# Altium schematic symbol library 集成库0514.SCHLIB: 137 symbols
Pins are listed as number, name and electrical type; pins without a type are passive.

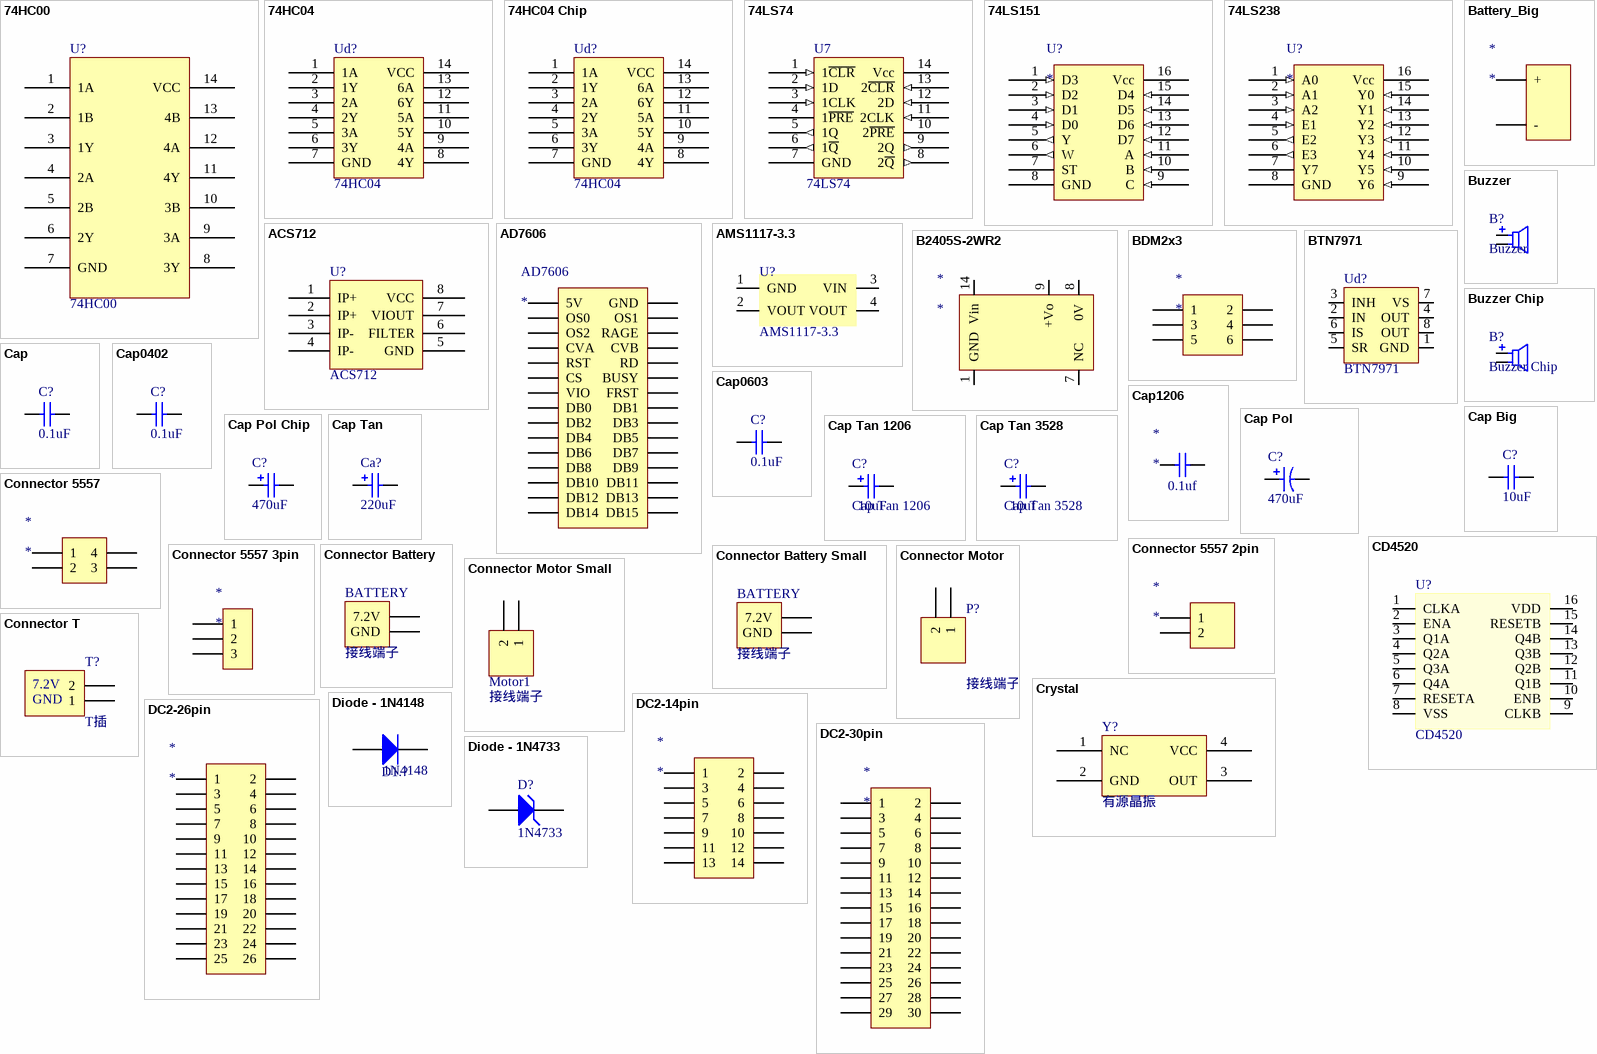
[diagram p0: symbols 74HC00 to Diode - 1N4733]

## 74HC00
designator U?
四路与非门
footprint 74HC00
pins: 1 1A, 2 1B, 3 1Y, 4 2A, 5 2B, 6 2Y, 7 GND, 8 3Y, 9 3A, 10 3B, 11 4Y, 12 4A, 13 4B, 14 VCC

## 74HC04
designator Ud?
反相器，直插封装
footprint 74HC04 (直插反相器)
footprint 74LS04 (贴片反相器)
pins: 1 1A, 2 1Y, 3 2A, 4 2Y, 5 3A, 6 3Y, 7 GND, 8 4Y, 9 4A, 10 5Y, 11 5A, 12 6Y, 13 6A, 14 VCC

## 74HC04 Chip
designator Ud?, comment 74HC04
反相器，贴片封装
footprint 74LS04 (贴片反相器)
pins: 1 1A, 2 1Y, 3 2A, 4 2Y, 5 3A, 6 3Y, 7 GND, 8 4Y, 9 4A, 10 5Y, 11 5A, 12 6Y, 13 6A, 14 VCC

## 74LS74
designator U7
D触发器
footprint 74LS74 (D触发器)
pins: 1 1~{CLR} (in), 2 1D (in), 3 1CLK (in), 4 1~{PRE}, 5 1Q (out), 6 1~{Q} (out), 7 GND, 8 2~{Q} (out), 9 2Q (out), 10 2~{PRE}, 11 2CLK (in), 12 2D (in), 13 2~{CLR} (in), 14 Vcc (power)

## 74LS151
designator U?
8选1多路选通
footprint 74LS151
pins: 1 D3 (in), 2 D2 (in), 3 D1 (in), 4 D0 (in), 5 Y (out), 6 W (out), 7 ST, 8 GND, 9 C (in), 10 B (in), 11 A (in), 12 D7 (in), 13 D6 (in), 14 D5 (in), 15 D4 (in), 16 Vcc (power)

## 74LS238
designator U?
3-8译码器
footprint 74LS238
pins: 1 A0 (in), 2 A1 (in), 3 A2 (in), 4 E1 (in), 5 E2 (out), 6 E3 (out), 7 Y7, 8 GND, 9 Y6 (in), 10 Y5 (in), 11 Y4 (in), 12 Y3 (in), 13 Y2 (in), 14 Y1 (in), 15 Y0 (in), 16 Vcc (power)

## ACS712
designator U?
电流霍尔传感器
footprint ACS712
pins: 1 IP+, 2 IP+, 3 IP-, 4 IP-, 5 GND, 6 FILTER, 7 VIOUT, 8 VCC

## AD7606
designator AD7606
AD7606, Header, 15-Pin, Dual row
footprint HDR15X2
pins: 1 5V, 2 GND, 3 OS0, 4 OS1, 5 OS2, 6 RAGE, 7 CVA, 8 CVB, 9 RST, 10 RD, 11 CS, 12 BUSY, 13 VIO, 14 FRST, 15 DB0, 16 DB1, 17 DB2, 18 DB3, 19 DB4, 20 DB5, 21 DB6, 22 DB7, 23 DB8, 24 DB9, 25 DB10, 26 DB11, 27 DB12, 28 DB13, 29 DB14, 30 DB15

## AMS1117-3.3
designator U?
电源芯片,输出3.3V
footprint AMS1117-3.3 (SOT223, 4-Leads, Body 6.7x7.3mm (max), Pitch 2.29mm, IPC Medium Density)
pins: 1 GND, 2 VOUT, 3 VIN, 4 VOUT

## B2405S-2WR2
designator *
footprint B2405-2W
pins: 1 GND, 7 NC, 8 0V, 9 +Vo, 14 Vin

## Battery_Big
designator *
pins: 1 +, 2 -

## BDM2x3
designator *
footprint BDM2x3
pins: 1, 2, 3, 4, 5, 6

## BTN7971
designator Ud?
英飞凌驱动芯片
footprint BTN7971
pins: 1 GND, 2 IN, 3 INH, 4 OUT, 5 SR, 6 IS, 7 VS, 8 OUT

## Buzzer
designator B?
有源蜂鸣器, 5V
footprint Buzzer (有源蜂鸣器, 5V)
pins: 1, 2

## Buzzer Chip
designator B?
有源蜂鸣器, 贴片, 5V
footprint Buzzer Chip (有源蜂鸣器, 贴片, 9.6mmX9.6mmX5mm)
footprint Buzzer Chip2 (有源蜂鸣器, 5V)
pins: 1, 2

## Cap
designator C?  value 0.1uF  (hidden comment: Cap)
电容0805; Published: 8-Jun-2000; LatestRevisionDate: 17-Jul-2002; LatestRevisionNote: Re-released for DXP Platform.; PackageReference: RAD-0.3; Publisher: Altium Limited
simulation model CAP (Capacitor)
signal-integrity model Cap
footprint 0805
pins: 1, 2

## Cap0402
designator C?  value 0.1uF  (hidden comment: Cap0402)
电容0402; Published: 8-Jun-2000; LatestRevisionDate: 17-Jul-2002; LatestRevisionNote: Re-released for DXP Platform.; PackageReference: RAD-0.3; Publisher: Altium Limited
simulation model CAP (Capacitor)
signal-integrity model Cap
footprint 0402 (Chip Capacitor; Body 1.0 x 0.5 mm (LxW t)
pins: 1, 2

## Cap0603
designator C?  value 0.1uF  (hidden comment: Cap0603)
电容0603; Published: 8-Jun-2000; LatestRevisionDate: 17-Jul-2002; LatestRevisionNote: Re-released for DXP Platform.; PackageReference: RAD-0.3; Publisher: Altium Limited
simulation model CAP (Capacitor)
signal-integrity model Cap
footprint 0603
pins: 1, 2

## Cap1206
designator *
footprint 1206
pins: 1, 2
text: 0.1uf

## Cap Big
designator C?  value 10uF
较大电容，10uF或22uF; Published: 8-Jun-2000; LatestRevisionDate: 17-Jul-2002; LatestRevisionNote: Re-released for DXP Platform.; PackageReference: RAD-0.3; Publisher: Altium Limited
simulation model CAP (Capacitor)
signal-integrity model Cap
footprint 0805_2 (0805,较大，用于10uF电容)
pins: 1, 2

## Cap Pol
designator C?  value 470uF  (hidden comment: Cap Pol)
极性直插电容，470uF; Published: 8-Jun-2000; LatestRevisionDate: 17-Jul-2002; LatestRevisionNote: Re-released for DXP Platform.; PackageReference: RB7.6-15; Publisher: Altium Limited
footprint Cap Pol (电解电容，直插)
pins: 1, 2
1 alternate drawing of the same symbol

## Cap Pol Chip
designator C?, comment value 470uF  (hidden comment: Cap 470uf贴片)
Published: 8-Jun-2000; LatestRevisionDate: 17-Jul-2002; LatestRevisionNote: Re-released for DXP Platform.; PackageReference: RB7.6-15; Publisher: Altium Limited
footprint Cap Pol Chip (470uF,贴片)
pins: 1, 2
1 alternate drawing of the same symbol

## Cap Tan
designator Ca?  value 220uF  (hidden comment: Cap Tan)
钽电容，220uF或100uF; Manufacturer: Generic Components; Class: Passive; SubClass: Capacitor; Published: 08/06/2000; Publisher: Altium Hobart Technology Centre
simulation model CAP (Capacitor)
signal-integrity model Cap Pol
footprint Cap Tan (钽电容)
pins: 1, 2

## Cap Tan 1206
designator C?  value 10uF
Cap 10uf钽; Published: 8-Jun-2000; LatestRevisionDate: 29-May-2009; LatestRevisionNote: IPC-7351 Footprint Added.; PackageReference: C0805; Publisher: Altium Limited; PackageDescription: Chip Capacitor
footprint Cap Tan 1206 (钽电容，1206封装)
pins: 1, 2
1 alternate drawing of the same symbol

## Cap Tan 3528
designator C?  value 10uf
Cap 10uf钽; Published: 8-Jun-2000; LatestRevisionDate: 29-May-2009; LatestRevisionNote: IPC-7351 Footprint Added.; PackageReference: C0805; Publisher: Altium Limited; PackageDescription: Chip Capacitor
footprint Cap Tan 3528 (10uf钽电容，3528封装)
pins: 1, 2
1 alternate drawing of the same symbol

## CD4520
designator U?
双十进制加法计数器
footprint CD4520
pins: 1 CLKA, 2 ENA, 3 Q1A, 4 Q2A, 5 Q3A, 6 Q4A, 7 RESETA, 8 VSS, 9 CLKB, 10 ENB, 11 Q1B, 12 Q2B, 13 Q3B, 14 Q4B, 15 RESETB, 16 VDD

## Connector 5557
designator *
5557 4.2田宫头 4pin
footprint Connector 5557
pins: 1, 2, 3, 4

## Connector 5557 2pin
designator *
footprint Connector 5557 2pin
pins: 1, 2

## Connector 5557 3pin
designator *
footprint Connector 5557 3pin
pins: 1, 2, 3

## Connector Battery
designator BATTERY, comment 接线端子
电池接线端子; LatestRevisionDate: 17-Jul-2002; LatestRevisionNote: Re-released for DXP Platform.; Publisher: Altium Limited
signal-integrity model Connector
footprint Connector Battery (二端接线端子，用于电池)
pins: 1 GND, 2 7.2V

## Connector Battery Small
designator BATTERY, comment 接线端子
电池接线端子，小; LatestRevisionDate: 17-Jul-2002; LatestRevisionNote: Re-released for DXP Platform.; Publisher: Altium Limited
signal-integrity model Connector
footprint Connector Battery Small (二端接线端子，小)
pins: 1 GND, 2 7.2V

## Connector Motor
designator P?, comment 接线端子
二端接线端子,用于电机和电源; LatestRevisionDate: 17-Jul-2002; LatestRevisionNote: Re-released for DXP Platform.; Publisher: Altium Limited
signal-integrity model Connector
footprint Connector Motor (二端接线端子，用于电机或电源)
footprint Connector Motor_BIG (二端接线端子，稍大封装)
pins: 1, 2

## Connector Motor Small
designator Motor1, comment 接线端子
二端接线端子,小; LatestRevisionDate: 17-Jul-2002; LatestRevisionNote: Re-released for DXP Platform.; Publisher: Altium Limited
signal-integrity model Connector
footprint Connector Motor Small (二端接线端子，小)
pins: 1, 2

## Connector T
designator T?, comment T插
LatestRevisionDate: 17-Jul-2002; LatestRevisionNote: Re-released for DXP Platform.; Publisher: Altium Limited
signal-integrity model Connector
footprint Connector T (T插)
footprint Connector T_2 (T插，倾斜)
pins: 1, 2
text: 7.2V; GND

## Crystal
designator Y?, comment 有源晶振
有源晶振, 10MHz
footprint CRYSTAL 5X7 (有源晶振)
footprint CRYSTAL 3X5 (有源晶振，3mm X 5mm)
pins: 1 NC, 2 GND, 3 OUT, 4 VCC

## DC2-14pin
designator *
footprint DC2-14pin
pins: 1, 2, 3, 4, 5, 6, 7, 8, 9, 10, 11, 12, 13, 14

## DC2-26pin
designator *
footprint DC2-26pin
pins: 1, 2, 3, 4, 5, 6, 7, 8, 9, 10, 11, 12, 13, 14, 15, 16, 17, 18, 19, 20, 21, 22, 23, 24, 25, 26

## DC2-30pin
designator *
footprint DC2-30pin
pins: 1, 2, 3, 4, 5, 6, 7, 8, 9, 10, 11, 12, 13, 14, 15, 16, 17, 18, 19, 20, 21, 22, 23, 24, 25, 26, 27, 28, 29, 30

## Diode - 1N4148
designator D1.?  (value not drawn)
高速开关二极管; Published: 8-Jun-2000; LatestRevisionDate: 17-Jul-2002; LatestRevisionNote: Re-released for DXP Platform.; DatasheetDocument: 1997; PackageReference: DO-35; Publisher: Altium Limited; ComponentLink1Description: Manufacturer Link; ComponentLink1URL: http://www.fairchildsemi.com/; Code_JEDEC: DO-204-AH; ComponentLink2Description: Datasheet; ComponentLink2URL: http://www.fairchildsemi.com/ds/1N%2F1N4148.pdf
footprint Diode_1206 (二极管,1206封装)
pins: 1 A, 2 K
text: 1N4148

## Diode - 1N4733
designator D?, comment 1N4733
5.1V 稳压二极管; Published: 8-Jun-2000; LatestRevisionDate: 17-Jul-2002; LatestRevisionNote: Re-released for DXP Platform.; PackageReference: DIODE-0.7; Publisher: Altium Limited; PackageDescription: Diode, Thru-Hole; 2 Leads; 0.7 in Pin Spacing
simulation model ZENER (Diode)
signal-integrity model D Zener
footprint Diode_1206 (二极管,1206封装)
pins: 1 A, 2 K

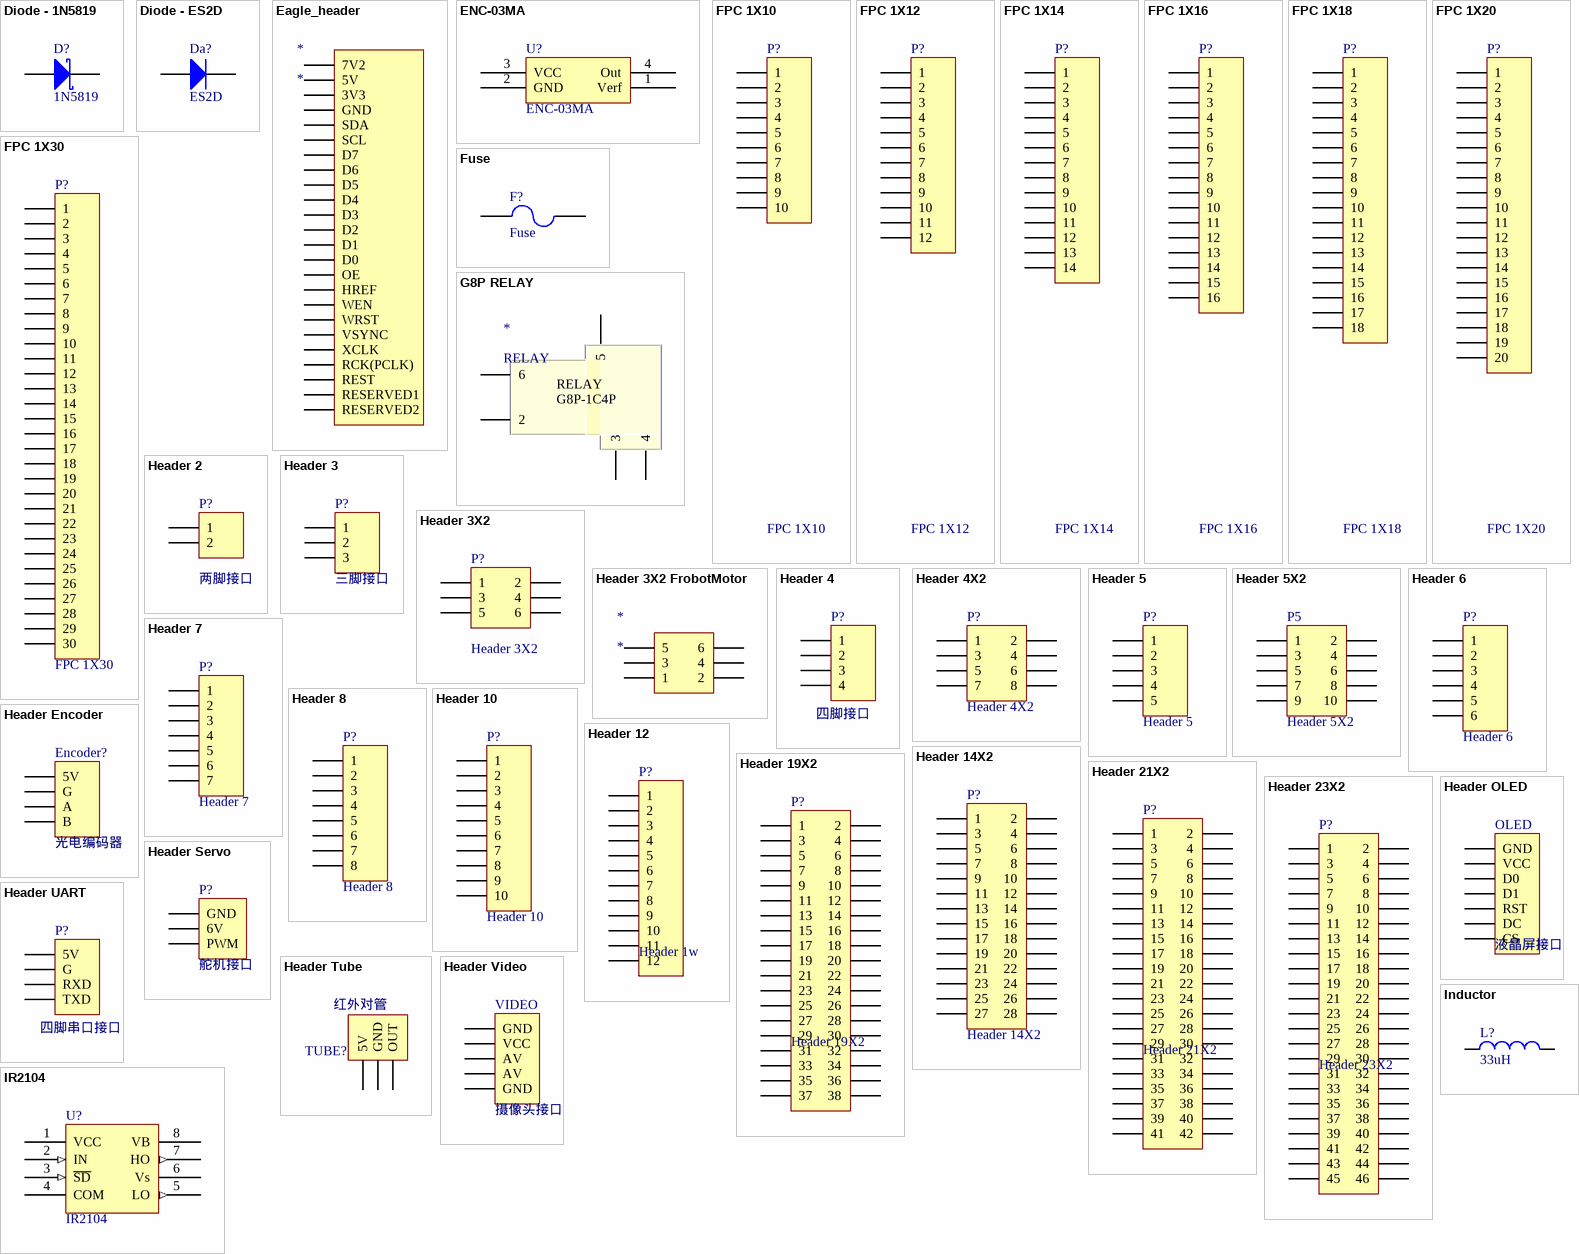
[diagram p1: symbols Diode - 1N5819 to IR2104]

## Diode - 1N5819
designator D?, comment 1N5819
肖特基二极管; Published: 8-Jun-2000; LatestRevisionDate: 17-Jul-2002; LatestRevisionNote: Re-released for DXP Platform.; PackageReference: SMB; Publisher: Altium Limited; PackageDescription: DO-214-AA/SMB; 2 C-Bend Leads; Body 5.3 x 3.6 mm, inc. leads (LxW); Code_JEDEC: DO-214-AA
simulation model SKYDIODE (Diode)
signal-integrity model D Schottky
footprint Diode_0805 (0805,较大，用于10uF电容)
pins: 1 A, 2 K

## Diode - ES2D
designator Da?, comment ES2D
二极管; Manufacturer: Generic Components; Class: Discrete; SubClass: Diode - Switching; Published: 08/06/2000; Publisher: Altium Hobart Technology Centre; Value: ES2D
simulation model DIODE (Diode)
signal-integrity model Diode
footprint Diode - ES2D (二极管)
pins: 1 A, 2 K

## Eagle_header
designator *
footprint Eagle_header
pins: 1 7V2, 2 5V, 3 3V3, 4 GND, 5 SDA, 6 SCL, 7 D7, 8 D6, 9 D5, 10 D4, 11 D3, 12 D2, 13 D1, 14 D0, 15 OE, 16 HREF, 17 WEN, 18 WRST, 19 VSYNC, 20 XCLK, 21 RCK(PCLK), 22 REST, 23 RESERVED1, 24 RESERVED2

## ENC-03MA
designator U?
陀螺仪
footprint ENC-03MA (陀螺仪)
pins: 1 Verf, 2 GND (power), 3 VCC (power), 4 Out

## FPC 1X10
designator P?
排线, 10-Pin; LatestRevisionDate: 17-Jul-2002; LatestRevisionNote: Re-released for DXP Platform.; Publisher: Altium Limited
signal-integrity model Connector
footprint FPC 1X10 (排线, 10-Pin)
pins: 1, 2, 3, 4, 5, 6, 7, 8, 9, 10

## FPC 1X12
designator P?
排线, 12-Pin; LatestRevisionDate: 17-Jul-2002; LatestRevisionNote: Re-released for DXP Platform.; Publisher: Altium Limited
signal-integrity model Connector
footprint FPC 1X12 (排线, 12-Pin)
pins: 1, 2, 3, 4, 5, 6, 7, 8, 9, 10, 11, 12

## FPC 1X14
designator P?
排线, 14-Pin; LatestRevisionDate: 17-Jul-2002; LatestRevisionNote: Re-released for DXP Platform.; Publisher: Altium Limited
signal-integrity model Connector
footprint FPC 1X14 (排线, 14-Pin)
pins: 1, 2, 3, 4, 5, 6, 7, 8, 9, 10, 11, 12, 13, 14

## FPC 1X16
designator P?
排线, 16-Pin; LatestRevisionDate: 17-Jul-2002; LatestRevisionNote: Re-released for DXP Platform.; Publisher: Altium Limited
signal-integrity model Connector
footprint FPC 1X16 (排线, 16-Pin)
pins: 1, 2, 3, 4, 5, 6, 7, 8, 9, 10, 11, 12, 13, 14, 15, 16

## FPC 1X18
designator P?
排线, 18-Pin; LatestRevisionDate: 17-Jul-2002; LatestRevisionNote: Re-released for DXP Platform.; Publisher: Altium Limited
signal-integrity model Connector
footprint FPC 1X18 (排线, 18-Pin)
pins: 1, 2, 3, 4, 5, 6, 7, 8, 9, 10, 11, 12, 13, 14, 15, 16, 17, 18

## FPC 1X20
designator P?
排线, 20-Pin; LatestRevisionDate: 17-Jul-2002; LatestRevisionNote: Re-released for DXP Platform.; Publisher: Altium Limited
signal-integrity model Connector
footprint FPC 1X20 (排线, 20-Pin)
pins: 1, 2, 3, 4, 5, 6, 7, 8, 9, 10, 11, 12, 13, 14, 15, 16, 17, 18, 19, 20

## FPC 1X30
designator P?
排线, 30-Pin; LatestRevisionDate: 17-Jul-2002; LatestRevisionNote: Re-released for DXP Platform.; Publisher: Altium Limited
signal-integrity model Connector
footprint FPC 1X30 (排线, 30-Pin)
pins: 1, 2, 3, 4, 5, 6, 7, 8, 9, 10, 11, 12, 13, 14, 15, 16, 17, 18, 19, 20, 21, 22, 23, 24, 25, 26, 27, 28, 29, 30

## Fuse
designator F?
Published: 8-Jun-2000; LatestRevisionDate: 17-Jul-2002; LatestRevisionNote: Re-released for DXP Platform.; PackageReference: PIN-W2/E2.8; Publisher: Altium Limited
simulation model FUSE (Spice Subcircuit)
footprint 0805_2 (0805,较大，用于10uF电容)
pins: 1, 2

## G8P RELAY
designator *, comment RELAY
footprint G8P RELAY
pins: 2, 3, 4, 5, 6
text: G8P-1C4P

## Header 2
designator P?, comment 两脚接口
Header, 2-Pin; LatestRevisionDate: 17-Jul-2002; LatestRevisionNote: Re-released for DXP Platform.; Publisher: Altium Limited
signal-integrity model Connector
footprint HDR1X2
pins: 1, 2

## Header 3
designator P?, comment 三脚接口
Header, 3-Pin; LatestRevisionDate: 17-Jul-2002; LatestRevisionNote: Re-released for DXP Platform.; Publisher: Altium Limited
signal-integrity model Connector
footprint HDR1X3 (Connector; Header; 3 Position)
pins: 1, 2, 3

## Header 3X2
designator P?
Header, 3-Pin, Dual row; LatestRevisionDate: 17-Jul-2002; LatestRevisionNote: Re-released for DXP Platform.; Publisher: Altium Limited
signal-integrity model Connector
footprint HDR2X3
pins: 1, 2, 3, 4, 5, 6

## Header 3X2 FrobotMotor
designator *
footprint HDR2X3 FrobotMotor
pins: 1, 2, 3, 4, 5, 6

## Header 4
designator P?, comment 四脚接口
Header, 4-Pin; LatestRevisionDate: 17-Jul-2002; LatestRevisionNote: Re-released for DXP Platform.; Publisher: Altium Limited
footprint HDR1X4 (Connector; Header; 4 Position)
signal-integrity model Connector
footprint HDR1X4 - F (排母1X4)
pins: 1, 2, 3, 4

## Header 4X2
designator P?
Header, 4-Pin, Dual row; LatestRevisionDate: 17-Jul-2002; LatestRevisionNote: Re-released for DXP Platform.; Publisher: Altium Limited
footprint HDR2X4 (Connector; Header; 4x2 Position)
signal-integrity model Connector
pins: 1, 2, 3, 4, 5, 6, 7, 8

## Header 5
designator P?
Header, 5-Pin; LatestRevisionDate: 17-Jul-2002; LatestRevisionNote: Re-released for DXP Platform.; Publisher: Altium Limited
footprint HDR1X5 (Connector; Header; 5 Position)
signal-integrity model Connector
pins: 1, 2, 3, 4, 5

## Header 5X2
designator P5
Header, 5-Pin, Dual row; LatestRevisionDate: 17-Jul-2002; LatestRevisionNote: Re-released for DXP Platform.; Publisher: Altium Limited
footprint HDR2X5 (Connector; Header; 5x2 Position)
signal-integrity model Connector
pins: 1, 2, 3, 4, 5, 6, 7, 8, 9, 10

## Header 6
designator P?
Header, 6-Pin; LatestRevisionDate: 17-Jul-2002; LatestRevisionNote: Re-released for DXP Platform.; Publisher: Altium Limited
footprint HDR1X6
signal-integrity model Connector
pins: 1, 2, 3, 4, 5, 6

## Header 7
designator P?
Header, 7-Pin; LatestRevisionDate: 17-Jul-2002; LatestRevisionNote: Re-released for DXP Platform.; Publisher: Altium Limited
footprint HDR1X7 (Connector; Header; 7 Position)
signal-integrity model Connector
pins: 1, 2, 3, 4, 5, 6, 7

## Header 8
designator P?
Header, 8-Pin; LatestRevisionDate: 17-Jul-2002; LatestRevisionNote: Re-released for DXP Platform.; Publisher: Altium Limited
footprint HDR1X8 (Connector; Header; 8 Position)
signal-integrity model Connector
pins: 1, 2, 3, 4, 5, 6, 7, 8

## Header 10
designator P?
Header, 10-Pin; LatestRevisionDate: 17-Jul-2002; LatestRevisionNote: Re-released for DXP Platform.; Publisher: Altium Limited
footprint HDR1X10 (Connector; Header; 10 Position)
signal-integrity model Connector
pins: 1, 2, 3, 4, 5, 6, 7, 8, 9, 10

## Header 12
designator P?, comment Header 1w
Header, 1w-Pin; LatestRevisionDate: 17-Jul-2002; LatestRevisionNote: Re-released for DXP Platform.; Publisher: Altium Limited
footprint HDR1X12
signal-integrity model Connector
pins: 1, 2, 3, 4, 5, 6, 7, 8, 9, 10, 11, 12

## Header 14X2
designator P?
Header, 14-Pin, Dual row; LatestRevisionDate: 17-Jul-2002; LatestRevisionNote: Re-released for DXP Platform.; Publisher: Altium Limited
footprint HDR2X14 (Connector; Header; 14x2 Position)
signal-integrity model Connector
pins: 1, 2, 3, 4, 5, 6, 7, 8, 9, 10, 11, 12, 13, 14, 15, 16, 17, 18, 19, 20, 21, 22, 23, 24, 25, 26, 27, 28

## Header 19X2
designator P?
Header, 19-Pin, Dual row; LatestRevisionDate: 17-Jul-2002; LatestRevisionNote: Re-released for DXP Platform.; Publisher: Altium Limited
footprint HDR19X1 - Small (小间距引脚, 2mm)
signal-integrity model Connector
footprint HDR19X1 - Small_2 (小间距引脚, 排针, 2mm)
pins: 1, 2, 3, 4, 5, 6, 7, 8, 9, 10, 11, 12, 13, 14, 15, 16, 17, 18, 19, 20, 21, 22, 23, 24, 25, 26, 27, 28, 29, 30, 31, 32, 33, 34, 35, 36, 37, 38

## Header 21X2
designator P?
Header, 21-Pin, Dual row; LatestRevisionDate: 17-Jul-2002; LatestRevisionNote: Re-released for DXP Platform.; Publisher: Altium Limited
footprint HDR21X1 - Small (小间距引脚, 2mm)
signal-integrity model Connector
footprint HDR21X1 - Small_2 (小间距引脚, 排针, 2mm)
pins: 1, 2, 3, 4, 5, 6, 7, 8, 9, 10, 11, 12, 13, 14, 15, 16, 17, 18, 19, 20, 21, 22, 23, 24, 25, 26, 27, 28, 29, 30, 31, 32, 33, 34, 35, 36, 37, 38, 39, 40, 41, 42

## Header 23X2
designator P?
Header, 23-Pin, Dual row; LatestRevisionDate: 17-Jul-2002; LatestRevisionNote: Re-released for DXP Platform.; Publisher: Altium Limited
signal-integrity model Connector
footprint HDR23X1 - Small (小间距引脚, 2mm)
footprint HDR23X1 - Small_2 (小间距引脚, 排针, 2mm)
pins: 1, 2, 3, 4, 5, 6, 7, 8, 9, 10, 11, 12, 13, 14, 15, 16, 17, 18, 19, 20, 21, 22, 23, 24, 25, 26, 27, 28, 29, 30, 31, 32, 33, 34, 35, 36, 37, 38, 39, 40, 41, 42, 43, 44, 45, 46

## Header Encoder
designator Encoder?, comment 光电编码器
光电编码器接口, 4-Pin; LatestRevisionDate: 17-Jul-2002; LatestRevisionNote: Re-released for DXP Platform.; Publisher: Altium Limited
footprint HDR1X4 (Connector; Header; 4 Position)
signal-integrity model Connector
pins: 1 5V, 2 G, 3 A, 4 B

## Header OLED
designator OLED, comment 液晶屏接口
OLED接口, 7-Pin; LatestRevisionDate: 17-Jul-2002; LatestRevisionNote: Re-released for DXP Platform.; Publisher: Altium Limited
signal-integrity model Connector
footprint HDR1X7 - F (排母1X7)
pins: 1 GND, 2 VCC, 3 D0, 4 D1, 5 RST, 6 DC, 7 CS

## Header Servo
designator P?, comment 舵机接口
Header, 3-Pin; LatestRevisionDate: 17-Jul-2002; LatestRevisionNote: Re-released for DXP Platform.; Publisher: Altium Limited
signal-integrity model Connector
footprint HDR1X3 (Connector; Header; 3 Position)
pins: 1 GND, 2 6V, 3 PWM

## Header Tube
designator TUBE?, comment 红外对管
红外对管接口, 3-Pin; LatestRevisionDate: 17-Jul-2002; LatestRevisionNote: Re-released for DXP Platform.; Publisher: Altium Limited
footprint HDR1X3 (Connector; Header; 3 Position)
signal-integrity model Connector
pins: 1 5V, 2 GND, 3 OUT

## Header UART
designator P?, comment 四脚串口接口
Header, 4-Pin, 串口接口; LatestRevisionDate: 17-Jul-2002; LatestRevisionNote: Re-released for DXP Platform.; Publisher: Altium Limited
footprint HDR1X4 (Connector; Header; 4 Position)
signal-integrity model Connector
footprint HDR1X4 - F (排母1X4)
pins: 1 5V, 2 G, 3 RXD, 4 TXD

## Header Video
designator VIDEO, comment 摄像头接口
摄像头接口, 5-Pin; LatestRevisionDate: 17-Jul-2002; LatestRevisionNote: Re-released for DXP Platform.; Publisher: Altium Limited
footprint HDR1X5 (Connector; Header; 5 Position)
signal-integrity model Connector
pins: 1 GND, 2 VCC, 3 AV, 4 AV, 5 GND

## Inductor
designator L?  value 33uH  (hidden comment: Inductor)
电感; Code_IEC: 1005; Published: 8-Jun-2000; LatestRevisionDate: 17-Jul-2002; LatestRevisionNote: Re-released for DXP Platform.; PackageReference: 0402-A; Publisher: Altium Limited; Code_JEITA: 0402
footprint Inductor 7X7 (电感)
footprint Inductor 10X10 (电感_大封装)
pins: 1, 2

## IR2104
designator U?
MOS驱动芯片
footprint IR2104
pins: 1 VCC, 2 IN (in), 3 ~{SD} (in), 4 COM, 5 LO (out), 6 Vs, 7 HO (out), 8 VB

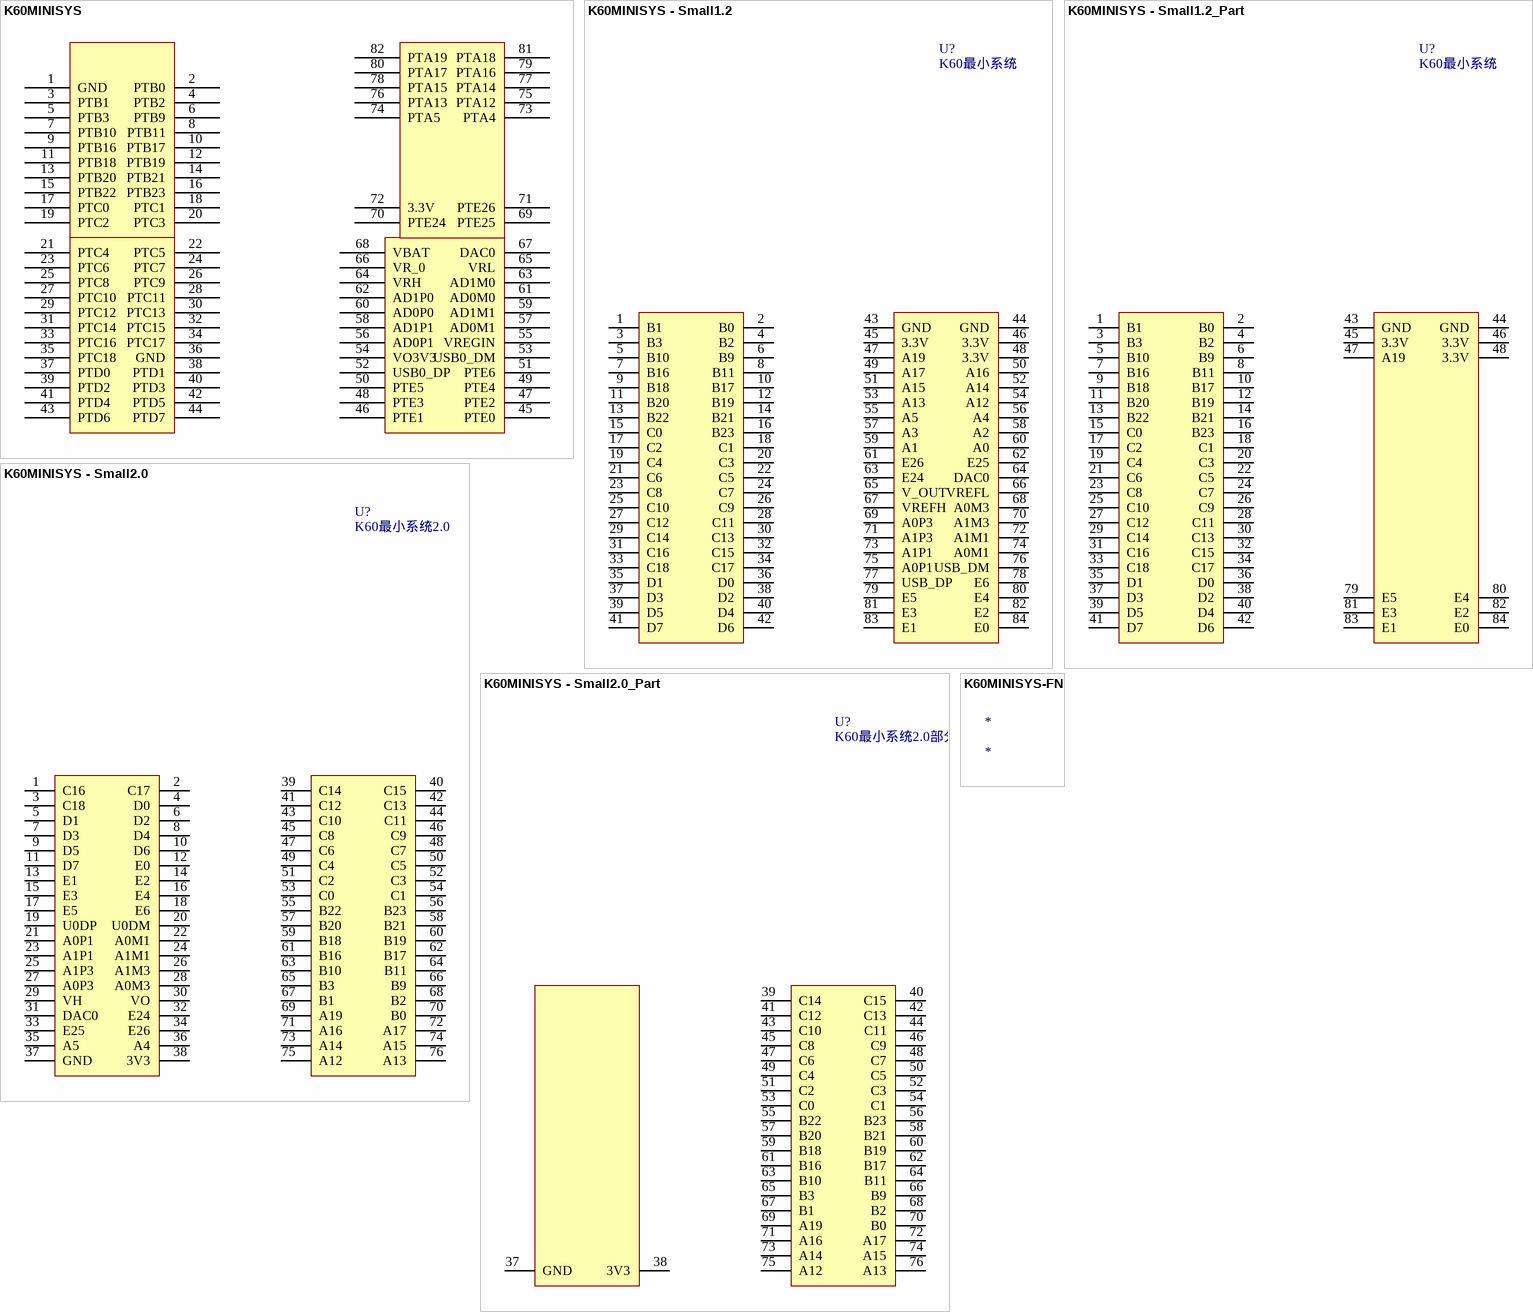
[diagram p2: symbols K60MINISYS to K60MINISYS-FN]

## K60MINISYS
designator U?, comment K60DN512 100PIN  (value not drawn)
K60最小系统
footprint K60MINISYS
pins: 1 GND, 2 PTB0, 3 PTB1, 4 PTB2, 5 PTB3, 6 PTB9, 7 PTB10, 8 PTB11, 9 PTB16, 10 PTB17, 11 PTB18, 12 PTB19, 13 PTB20, 14 PTB21, 15 PTB22, 16 PTB23, 17 PTC0, 18 PTC1, 19 PTC2, 20 PTC3, 21 PTC4, 22 PTC5, 23 PTC6, 24 PTC7, 25 PTC8, 26 PTC9, 27 PTC10, 28 PTC11, 29 PTC12, 30 PTC13, 31 PTC14, 32 PTC15, 33 PTC16, 34 PTC17, 35 PTC18, 36 GND, 37 PTD0, 38 PTD1, 39 PTD2, 40 PTD3, 41 PTD4, 42 PTD5, 43 PTD6, 44 PTD7, 45 PTE0, 46 PTE1, 47 PTE2, 48 PTE3, 49 PTE4, 50 PTE5, 51 PTE6, 52 USB0_DP, 53 USB0_DM, 54 VO3V3, 55 VREGIN, 56 AD0P1, 57 AD0M1, 58 AD1P1, 59 AD1M1, 60 AD0P0, 61 AD0M0, 62 AD1P0, 63 AD1M0, 64 VRH, 65 VRL, 66 VR_0, 67 DAC0, 68 VBAT, 69 PTE25, 70 PTE24, 71 PTE26, 72 3.3V, 73 PTA4, 74 PTA5, 75 PTA12, 76 PTA13, 77 PTA14, 78 PTA15, 79 PTA16, 80 PTA17, 81 PTA18, 82 PTA19

## K60MINISYS - Small1.2
designator U?, comment K60最小系统
K60最小系统, 较小
footprint K60MINISYS - Small
pins: 1 B1, 2 B0, 3 B3, 4 B2, 5 B10, 6 B9, 7 B16, 8 B11, 9 B18, 10 B17, 11 B20, 12 B19, 13 B22, 14 B21, 15 C0, 16 B23, 17 C2, 18 C1, 19 C4, 20 C3, 21 C6, 22 C5, 23 C8, 24 C7, 25 C10, 26 C9, 27 C12, 28 C11, 29 C14, 30 C13, 31 C16, 32 C15, 33 C18, 34 C17, 35 D1, 36 D0, 37 D3, 38 D2, 39 D5, 40 D4, 41 D7, 42 D6, 43 GND, 44 GND, 45 3.3V, 46 3.3V, 47 A19, 48 3.3V, 49 A17, 50 A16, 51 A15, 52 A14, 53 A13, 54 A12, 55 A5, 56 A4, 57 A3, 58 A2, 59 A1, 60 A0, 61 E26, 62 E25, 63 E24, 64 DAC0, 65 V_OUT, 66 VREFL, 67 VREFH, 68 A0M3, 69 A0P3, 70 A1M3, 71 A1P3, 72 A1M1, 73 A1P1, 74 A0M1, 75 A0P1, 76 USB_DM, 77 USB_DP, 78 E6, 79 E5, 80 E4, 81 E3, 82 E2, 83 E1, 84 E0

## K60MINISYS - Small1.2_Part
designator U?, comment K60最小系统
K60最小系统, 较小, 部分
footprint K60MINISYS - Small_Part
pins: 1 B1, 2 B0, 3 B3, 4 B2, 5 B10, 6 B9, 7 B16, 8 B11, 9 B18, 10 B17, 11 B20, 12 B19, 13 B22, 14 B21, 15 C0, 16 B23, 17 C2, 18 C1, 19 C4, 20 C3, 21 C6, 22 C5, 23 C8, 24 C7, 25 C10, 26 C9, 27 C12, 28 C11, 29 C14, 30 C13, 31 C16, 32 C15, 33 C18, 34 C17, 35 D1, 36 D0, 37 D3, 38 D2, 39 D5, 40 D4, 41 D7, 42 D6, 43 GND, 44 GND, 45 3.3V, 46 3.3V, 47 A19, 48 3.3V, 79 E5, 80 E4, 81 E3, 82 E2, 83 E1, 84 E0

## K60MINISYS - Small2.0
designator U?, comment K60最小系统2.0
K60最小系统, 更小
footprint K60MINISYS - SMALL2.0 (K60最小系统，更小)
pins: 1 C16, 2 C17, 3 C18, 4 D0, 5 D1, 6 D2, 7 D3, 8 D4, 9 D5, 10 D6, 11 D7, 12 E0, 13 E1, 14 E2, 15 E3, 16 E4, 17 E5, 18 E6, 19 U0DP, 20 U0DM, 21 A0P1, 22 A0M1, 23 A1P1, 24 A1M1, 25 A1P3, 26 A1M3, 27 A0P3, 28 A0M3, 29 VH, 30 VO, 31 DAC0, 32 E24, 33 E25, 34 E26, 35 A5, 36 A4, 37 GND, 38 3V3, 39 C14, 40 C15, 41 C12, 42 C13, 43 C10, 44 C11, 45 C8, 46 C9, 47 C6, 48 C7, 49 C4, 50 C5, 51 C2, 52 C3, 53 C0, 54 C1, 55 B22, 56 B23, 57 B20, 58 B21, 59 B18, 60 B19, 61 B16, 62 B17, 63 B10, 64 B11, 65 B3, 66 B9, 67 B1, 68 B2, 69 A19, 70 B0, 71 A16, 72 A17, 73 A14, 74 A15, 75 A12, 76 A13

## K60MINISYS - Small2.0_Part
designator U?, comment K60最小系统2.0部分
K60最小系统, 更小, 部分
footprint K60MINISYS - SMALL2.0_PART (K60最小系统，更小，部分)
pins: 37 GND, 38 3V3, 39 C14, 40 C15, 41 C12, 42 C13, 43 C10, 44 C11, 45 C8, 46 C9, 47 C6, 48 C7, 49 C4, 50 C5, 51 C2, 52 C3, 53 C0, 54 C1, 55 B22, 56 B23, 57 B20, 58 B21, 59 B18, 60 B19, 61 B16, 62 B17, 63 B10, 64 B11, 65 B3, 66 B9, 67 B1, 68 B2, 69 A19, 70 B0, 71 A16, 72 A17, 73 A14, 74 A15, 75 A12, 76 A13

## K60MINISYS-FN
designator *

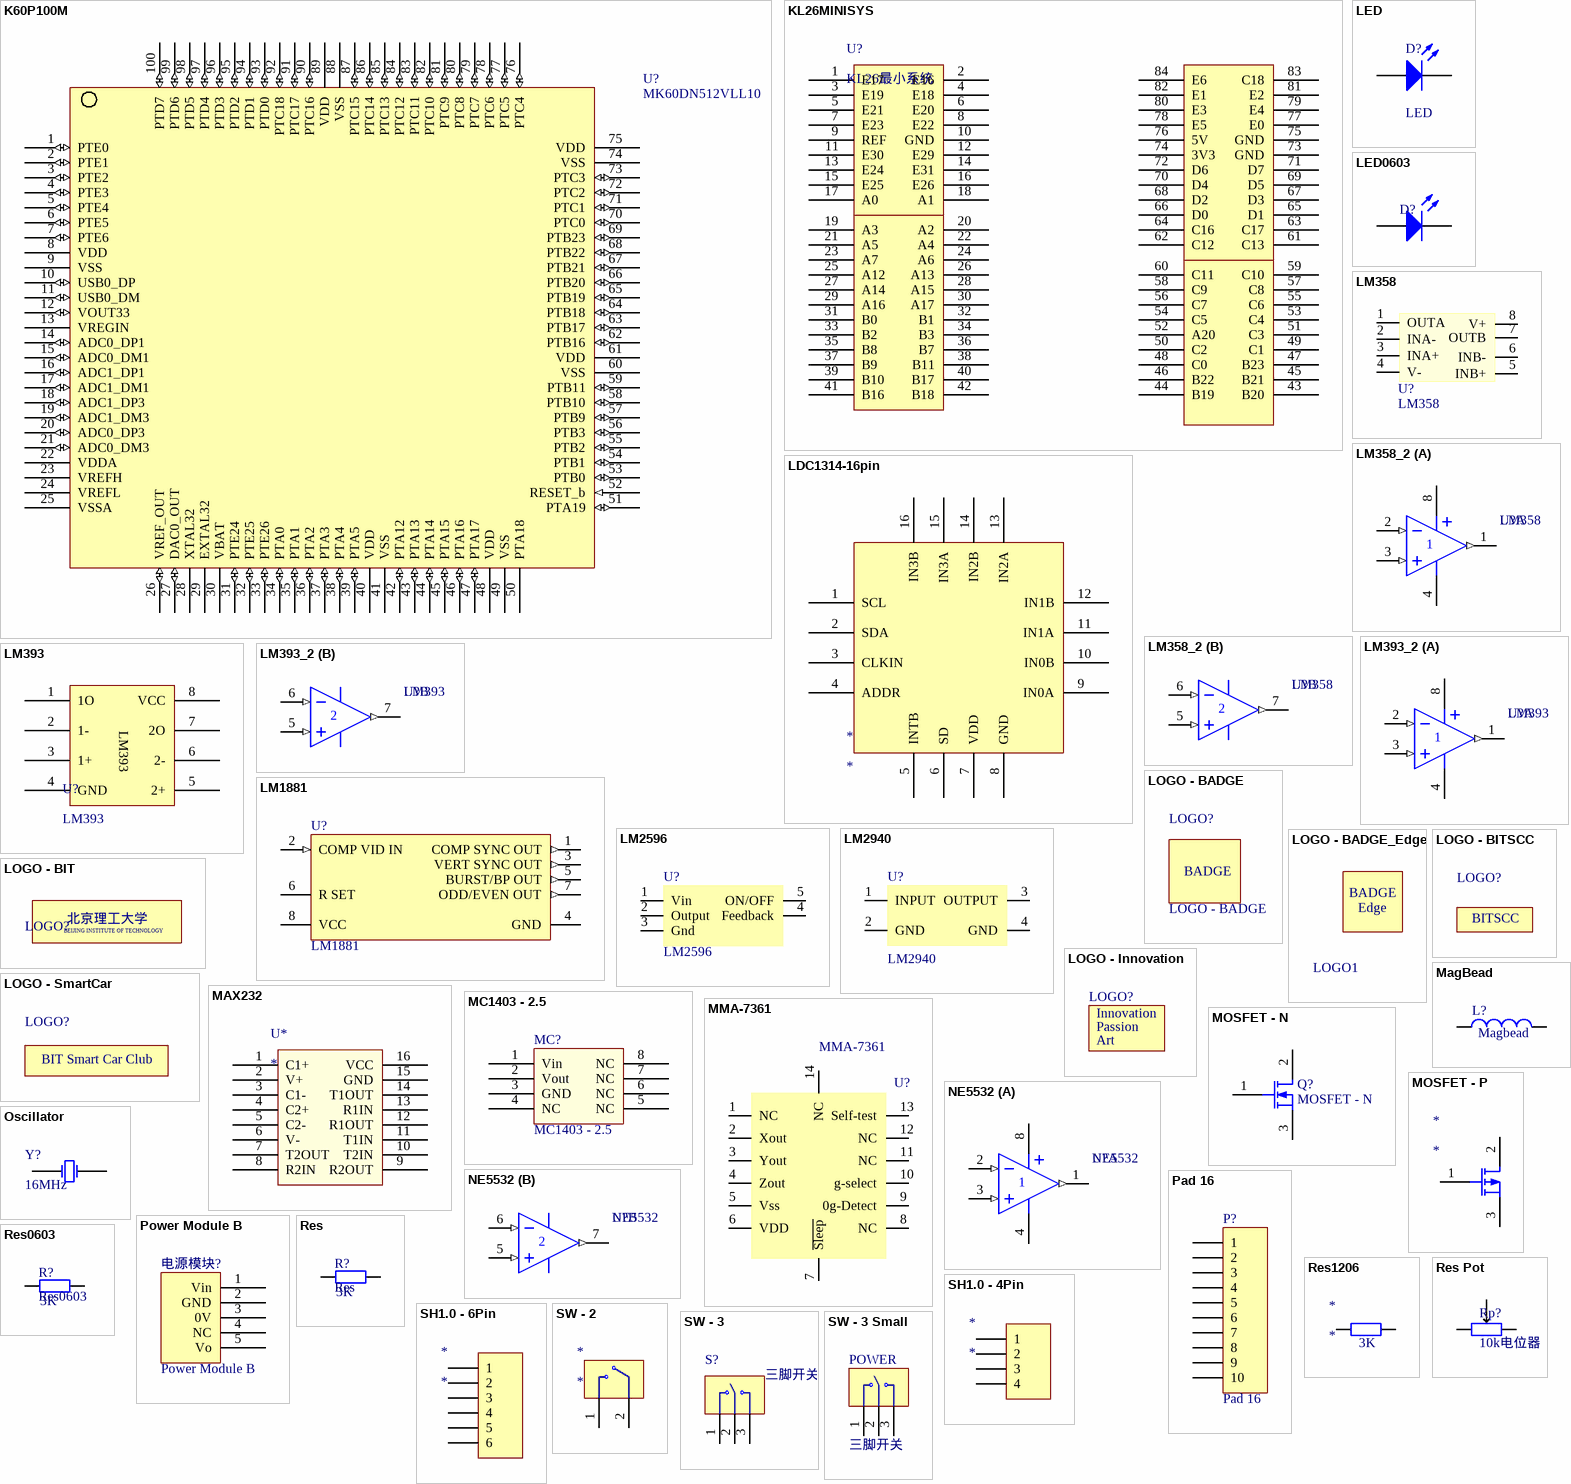
[diagram p3: symbols K60P100M to SW - 3 Small]

## K60P100M
designator U?, comment MK60DN512VLL10
K60P100M
footprint K60P100M
footprint K60P100M - lean
footprint K60P100M _2
pins: 1 PTE0 (io), 2 PTE1 (io), 3 PTE2 (io), 4 PTE3 (io), 5 PTE4 (io), 6 PTE5 (io), 7 PTE6 (io), 8 VDD (power), 9 VSS (power), 10 USB0_DP (io), 11 USB0_DM (io), 12 VOUT33 (io), 13 VREGIN, 14 ADC0_DP1 (io), 15 ADC0_DM1 (io), 16 ADC1_DP1 (io), 17 ADC1_DM1 (io), 18 ADC1_DP3 (io), 19 ADC1_DM3 (io), 20 ADC0_DP3 (io), 21 ADC0_DM3 (io), 22 VDDA (power), 23 VREFH (power), 24 VREFL (power), 25 VSSA (power), 26 VREF_OUT (io), 27 DAC0_OUT (io), 28 XTAL32, 29 EXTAL32, 30 VBAT, 31 PTE24 (io), 32 PTE25 (io), 33 PTE26 (io), 34 PTA0 (io), 35 PTA1 (io), 36 PTA2 (io), 37 PTA3 (io), 38 PTA4 (io), 39 PTA5 (io), 40 VDD (power), 41 VSS (power), 42 PTA12 (io), 43 PTA13 (io), 44 PTA14 (io), 45 PTA15 (io), 46 PTA16 (io), 47 PTA17 (io), 48 VDD (power), 49 VSS (power), 50 PTA18, 51 PTA19 (io), 52 RESET_b (in), 53 PTB0 (io), 54 PTB1 (io), 55 PTB2 (io), 56 PTB3 (io), 57 PTB9 (io), 58 PTB10 (io), 59 PTB11 (io), 60 VSS, 61 VDD, 62 PTB16 (io), 63 PTB17 (io), 64 PTB18 (io), 65 PTB19 (io), 66 PTB20 (io), 67 PTB21 (io), 68 PTB22 (io), 69 PTB23 (io), 70 PTC0 (io), 71 PTC1 (io), 72 PTC2 (io), 73 PTC3 (io), 74 VSS, 75 VDD, 76 PTC4 (io), 77 PTC5 (io), 78 PTC6 (io), 79 PTC7 (io), 80 PTC8 (io), 81 PTC9 (io), 82 PTC10 (io), 83 PTC11 (io), 84 PTC12 (io), 85 PTC13 (io), 86 PTC14 (io), 87 PTC15 (io), 88 VSS, 89 VDD, 90 PTC16 (io), 91 PTC17 (io), 92 PTC18 (io), 93 PTD0 (io), 94 PTD1 (io), 95 PTD2 (io), 96 PTD3 (io), 97 PTD4 (io), 98 PTD5 (io), 99 PTD6 (io), 100 PTD7 (io)

## KL26MINISYS
designator U?, comment KL26最小系统
footprint KL26MINISYS (KL26最小系统)
pins: 1 E17, 2 E16, 3 E19, 4 E18, 5 E21, 6 E20, 7 E23, 8 E22, 9 REF, 10 GND, 11 E30, 12 E29, 13 E24, 14 E31, 15 E25, 16 E26, 17 A0, 18 A1, 19 A3, 20 A2, 21 A5, 22 A4, 23 A7, 24 A6, 25 A12, 26 A13, 27 A14, 28 A15, 29 A16, 30 A17, 31 B0, 32 B1, 33 B2, 34 B3, 35 B8, 36 B7, 37 B9, 38 B11, 39 B10, 40 B17, 41 B16, 42 B18, 43 B20, 44 B19, 45 B21, 46 B22, 47 B23, 48 C0, 49 C1, 50 C2, 51 C3, 52 A20, 53 C4, 54 C5, 55 C6, 56 C7, 57 C8, 58 C9, 59 C10, 60 C11, 61 C13, 62 C12, 63 C17, 64 C16, 65 D1, 66 D0, 67 D3, 68 D2, 69 D5, 70 D4, 71 D7, 72 D6, 73 GND, 74 3V3, 75 GND, 76 5V, 77 E0, 78 E5, 79 E4, 80 E3, 81 E2, 82 E1, 83 C18, 84 E6

## LDC1314-16pin
designator *
LDC1314
footprint LDC1314
pins: 1 SCL, 2 SDA, 3 CLKIN, 4 ADDR, 5 INTB, 6 SD, 7 VDD, 8 GND, 9 IN0A, 10 IN0B, 11 IN1A, 12 IN1B, 13 IN2A, 14 IN2B, 15 IN3A, 16 IN3B

## LED
designator D?
LED, 0805; Published: 8-Jun-2000; LatestRevisionDate: 17-Jul-2002; LatestRevisionNote: Re-released for DXP Platform.; PackageDocument: Feb-2002; PackageReference: 3.2X1.6X1.1; Publisher: Altium Limited
simulation model LED2 (Diode)
footprint LED
pins: 1 A, 2 K

## LED0603
designator D?  (value not drawn)
LED, 0603
footprint LED0603 (发光二级管，0603封装)
pins: 1 A, 2 K

## LM358
designator U?
两路运放
footprint LM358 (SOP, 8-Leads, Body 5.0x4.0mm (max), Pitch 1.27mm, IPC Medium Density)
pins: 1 OUTA, 2 INA-, 3 INA+, 4 V-, 5 INB+, 6 INB-, 7 OUTB, 8 V+

## LM358_2
designator U?, comment LM358
两路运放; Published: 15-Apr-2002; LatestRevisionDate: 04-Mar-2005; LatestRevisionNote: Stylized 3D Model Added.; DatasheetVersion: May-1988; PackageVersion: Jun-1999; PackageReference: P008; Publisher: Altium Limited; PackageDescription: DIP; 8 Leads; Row Spacing 7.62 mm; Pitch 2.54 mm; Code_JEDEC: MO-001-AN; ComponentLink1Description: Manufacturer Link; ComponentLink1URL: http://www.ti.com/; ComponentLink2Description: Datasheet; ComponentLink2URL: http://www-s.ti.com/sc/ds/ne5532a.pdf
footprint LM358 (SOP, 8-Leads, Body 5.0x4.0mm (max), Pitch 1.27mm, IPC Medium Density)
part A pins: 1 OUT (out), 2 IN- (in), 3 IN+ (in), 4 V- (power), 8 V+ (power)
part B pins: 5 IN+ (in), 6 IN- (in), 7 OUT (out)

## LM393
designator U?
两路电压比较器
footprint LM393 (电压比较器, SO-8)
pins: 1 1O, 2 1-, 3 1+, 4 GND, 5 2+, 6 2-, 7 2O, 8 VCC

## LM393_2
designator U?, comment LM393
两路电压比较器; Published: 15-Apr-2002; LatestRevisionDate: 04-Mar-2005; LatestRevisionNote: Stylized 3D Model Added.; DatasheetVersion: May-1988; PackageVersion: Jun-1999; PackageReference: P008; Publisher: Altium Limited; PackageDescription: DIP; 8 Leads; Row Spacing 7.62 mm; Pitch 2.54 mm; Code_JEDEC: MO-001-AN; ComponentLink1Description: Manufacturer Link; ComponentLink1URL: http://www.ti.com/; ComponentLink2Description: Datasheet; ComponentLink2URL: http://www-s.ti.com/sc/ds/ne5532a.pdf
footprint LM393 (电压比较器, SO-8)
part A pins: 1 OUT (out), 2 IN- (in), 3 IN+ (in), 4 V- (power), 8 V+ (power)
part B pins: 5 IN+ (in), 6 IN- (in), 7 OUT (out)

## LM1881
designator U?
视频信号行场分离器; PartNumber: LM1881M; Manufacturer: National Semiconductor; CompType: DisplayCircuit; PackageTopMarking: NSZXTT*LM*1881M; Published: 27-Nov-2008; DatasheetVersion: May-06; PackageVersion: revL, Sep-2006; PackageReference: M08A; Publisher: Altium Limited; PackageDescription: SOIC Narrow, 4.9 x 3.9 x 1.45mm, 8 Lead, 1.27mm Pitch; RoHS: O; Pin Count: 8; DigiKeyPartNumber: LM1881M-ND; Code_JEDEC: MS-012-AA; Code_IPC: SOIC127P600-8; ComponentLink1Description: LM1881 Datasheet; ComponentLink1URL: http://www.national.com/ds/LM/LM1881.pdf; ComponentLink2Description: LM1881 Web Page; ComponentLink2URL: http://www.national.com/mpf/LM/LM1881.html; ComponentLink3Description: M08A Package Page; ComponentLink3URL: http://www.national.com/packaging/folders/m08a.html
footprint LM1881
pins: 1 COMP SYNC OUT (out), 2 COMP VID IN (in), 3 VERT SYNC OUT (out), 4 GND (power), 5 BURST/BP OUT (out), 6 R SET, 7 ODD/EVEN OUT (out), 8 VCC (power)

## LM2596
designator U?
开关电源模块, 5V 或 ADJ
footprint LM2596 (D2-PAK, 6-Pads, Body 10.2x8.6mm (max), IPC Medium Density)
footprint LM2587
pins: 1 Vin, 2 Output, 3 Gnd, 4 Feedback, 5 ON/OFF

## LM2940
designator U?
电源模块, 5V
footprint LM2940 (SOT223, 4-Leads, Body 6.7x7.1mm (max), Pitch 2.30mm, IPC Medium Density)
pins: 1 INPUT, 2 GND, 3 OUTPUT, 4 GND

## LOGO - BADGE
designator LOGO?
北理工校徽
footprint LOGO - Badge (校徽)
text: BADGE

## LOGO - BADGE_Edge
designator LOGO1
北理工校徽，边缘
footprint LOGO - BADGE_Edge (校徽_边缘)
text: BADGE; Edge

## LOGO - BIT
designator LOGO?  (value not drawn)
北京理工大学
footprint LOGO - BIT (北京理工大学)
text: BEIJING INSTITUTE OF TECHNOLOGY

## LOGO - BITSCC
designator LOGO?  (value not drawn)
BITSCC
footprint LOGO - BITSCC (BITSCC)

## LOGO - Innovation
designator LOGO?  (value not drawn)
Innovation, Passion & Art
footprint LOGO - Innovation (Innovation, Passion & Art)
text: Innovation; Passion; Art

## LOGO - SmartCar
designator LOGO?  (value not drawn)
BIT Smart Car Club
footprint LOGO - SmartCar

## MagBead
designator L?
磁珠; Code_IEC: 1005; Published: 8-Jun-2000; LatestRevisionDate: 17-Jul-2002; LatestRevisionNote: Re-released for DXP Platform.; PackageReference: 0402-A; Publisher: Altium Limited; Code_JEITA: 0402; Value: Magbead
footprint MagBead (磁珠)
pins: 1, 2

## MAX232
designator U*
footprint MAX232
pins: 1 C1+ (power), 2 V+ (power), 3 C1-, 4 C2+, 5 C2-, 6 V-, 7 T2OUT, 8 R2IN, 9 R2OUT, 10 T2IN, 11 T1IN, 12 R1OUT, 13 R1IN, 14 T1OUT, 15 GND, 16 VCC

## MC1403 - 2.5
designator MC?
参考电压
footprint MC1403 - 2.5
pins: 1 Vin (power), 2 Vout (power), 3 GND, 4 NC, 5 NC, 6 NC, 7 NC, 8 NC

## MMA-7361
designator U?
三轴加速度计
footprint MMA-7361 (三轴加速度计)
pins: 1 NC, 2 Xout, 3 Yout, 4 Zout, 5 Vss, 6 VDD, 7 ~{Sleep}, 8 NC, 9 0g-Detect, 10 g-select, 11 NC, 12 NC, 13 Self-test, 14 NC

## MOSFET - N
designator Q?
N-Channel MOSFET; Published: 8-Jun-2000; LatestRevisionDate: 17-Jul-2002; LatestRevisionNote: Re-released for DXP Platform.; PackageVersion: 1995/1996; PackageReference: E3; Publisher: Altium Limited
simulation model NMOS (MOSFET-N)
footprint MOSFET - N
pins: 1 G, 2 D, 3 S

## MOSFET - P
designator *
footprint MOSFET - P
pins: 1 G, 2 D, 3 S

## NE5532
designator U?
Dual Low-Noise Operational Amplifier; Published: 15-Apr-2002; LatestRevisionDate: 04-Mar-2005; LatestRevisionNote: Stylized 3D Model Added.; DatasheetVersion: May-1988; PackageVersion: Jun-1999; PackageReference: P008; Publisher: Altium Limited; PackageDescription: DIP; 8 Leads; Row Spacing 7.62 mm; Pitch 2.54 mm; Code_JEDEC: MO-001-AN; ComponentLink1Description: Manufacturer Link; ComponentLink1URL: http://www.ti.com/; ComponentLink2Description: Datasheet; ComponentLink2URL: http://www-s.ti.com/sc/ds/ne5532a.pdf
3D model P008 (DIP; 8 Leads; Row Spacing 7.62 mm; Pitch 2.54 mm)
footprint NE5532
part A pins: 1 OUT (out), 2 IN- (in), 3 IN+ (in), 4 V- (power), 8 V+ (power)
part B pins: 5 IN+ (in), 6 IN- (in), 7 OUT (out)

## Oscillator
designator Y?, comment 16MHz
无源晶振
footprint Oscillator (无源晶振，贴片)
pins: 1 OSC1, 2 OSC2

## Pad 16
designator P?
Pad, 16-Pin; LatestRevisionDate: 17-Jul-2002; LatestRevisionNote: Re-released for DXP Platform.; Publisher: Altium Limited
signal-integrity model Connector
footprint Pad 1X16
pins: 1, 2, 3, 4, 5, 6, 7, 8, 9, 10

## Power Module B
designator 电源模块?
电源模块B
footprint Power Module B (电源模块B)
pins: 1 Vin (power), 2 GND (power), 3 0V (power), 4 NC (power), 5 Vo (power)

## Res
designator R?  value 3K
电阻, 0805; Published: 8-Jun-2000; LatestRevisionDate: 17-Jul-2002; LatestRevisionNote: Re-released for DXP Platform.; PackageReference: AXIAL-0.5; Publisher: Altium Limited
footprint 0805
simulation model RES (Semiconductor Resistor)
signal-integrity model Res Semi
pins: 1, 2

## Res0603
designator R?  value 3K
电阻, 0603; Published: 8-Jun-2000; LatestRevisionDate: 17-Jul-2002; LatestRevisionNote: Re-released for DXP Platform.; PackageReference: AXIAL-0.5; Publisher: Altium Limited
simulation model RES (Semiconductor Resistor)
signal-integrity model Res Semi
footprint 0603
pins: 1, 2

## Res1206
designator *
footprint 1206
pins: 1, 2
text: 3K

## Res Pot
designator Rp?, comment 10k电位器
电位器
footprint RES POT 3X3 (电位器)
footprint RES POT 5X5 (电位器)
pins: 1, 2, 3

## SH1.0 - 4Pin
designator *
footprint SH1.0 - 4Pin
pins: 1, 2, 3, 4

## SH1.0 - 6Pin
designator *
footprint SH1.0 - 6Pin
pins: 1, 2, 3, 4, 5, 6

## SW - 2
designator *
footprint SW - 2
pins: 1, 2

## SW - 3
designator S?, comment 三脚开关
LatestRevisionDate: 17-Jul-2002; LatestRevisionNote: Re-released for DXP Platform.; Publisher: Altium Limited
signal-integrity model Connector
footprint SW - 3 (三脚开关)
pins: 1, 2, 3

## SW - 3 Small
designator POWER, comment 三脚开关
三脚开关，小; LatestRevisionDate: 17-Jul-2002; LatestRevisionNote: Re-released for DXP Platform.; Publisher: Altium Limited
signal-integrity model Connector
footprint SW - 3 Small (三脚开关，小)
pins: 1, 2, 3

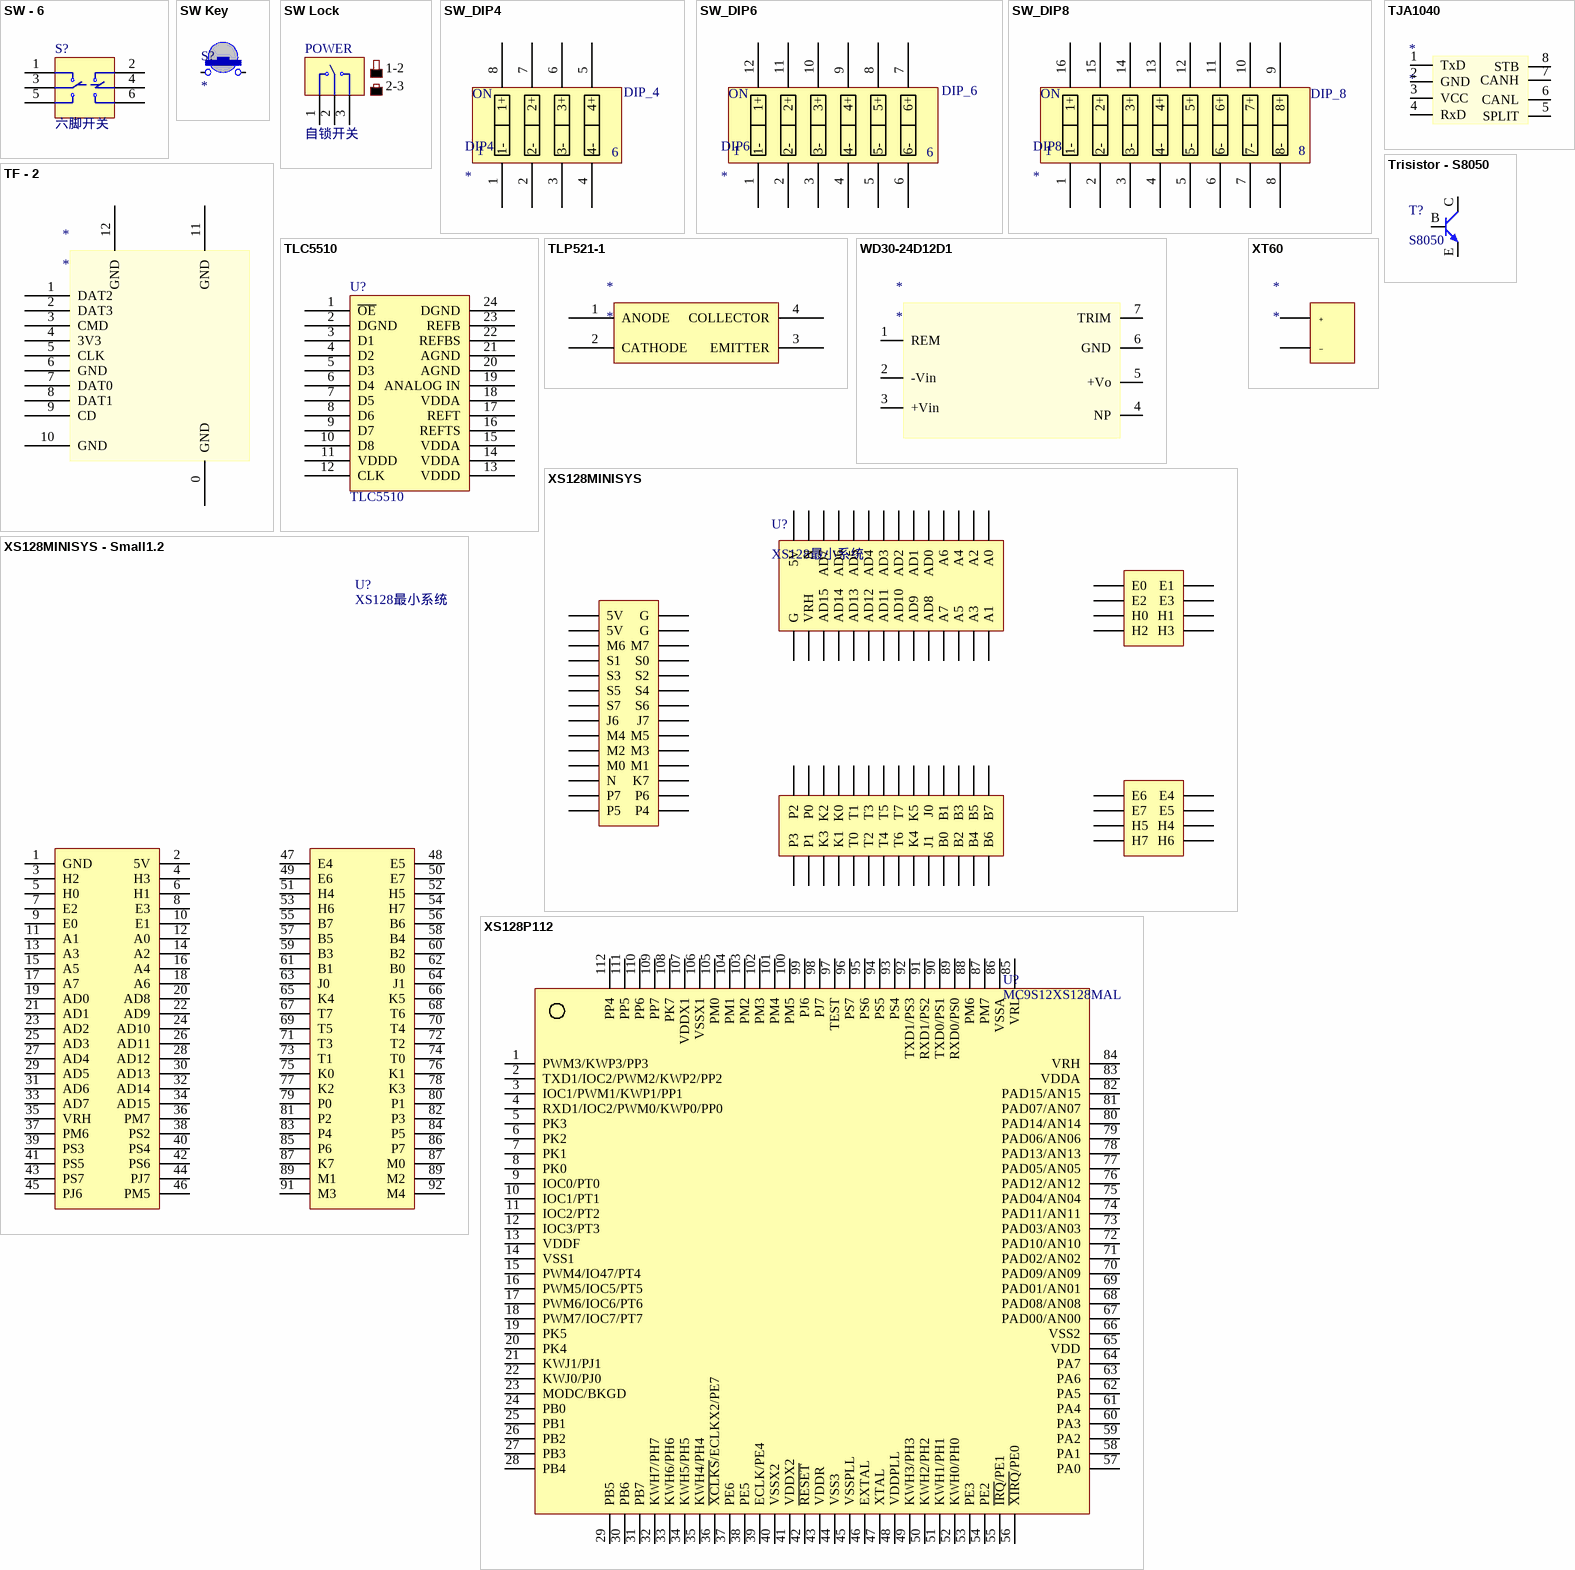
[diagram p4: symbols SW - 6 to XT60]

## SW - 6
designator S?, comment 六脚开关
LatestRevisionDate: 17-Jul-2002; LatestRevisionNote: Re-released for DXP Platform.; Publisher: Altium Limited
signal-integrity model Connector
footprint SW - 6 (六脚开关)
pins: 1, 2, 3, 4, 5, 6

## SW Key
designator S?
按键开关
footprint SW Key 0304 (按键开关, 3mm X 4mm)
footprint SW Key 0306 (按键开关, 3mm X 6mm)
pins: 1, 2

## SW Lock
designator POWER, comment 自锁开关
三脚自锁开关; LatestRevisionDate: 17-Jul-2002; LatestRevisionNote: Re-released for DXP Platform.; Publisher: Altium Limited
signal-integrity model Connector
footprint SW Lock (三脚自锁开关，6X6)
pins: 1, 2, 3
text: 1-2; 2-3

## SW_DIP4
designator DIP4
四位拨码开关
footprint SW_DIP4_Chip (四位拨码开关，贴片)
pins: 1 1-, 2 2-, 3 3-, 4 4-, 5 4+, 6 3+, 7 2+, 8 1+
text: ON; DIP_4

## SW_DIP6
designator DIP6
六位拨码开关
footprint SW_DIP6_Chip (六位拨码开关，贴片)
pins: 1 1-, 2 2-, 3 3-, 4 4-, 5 5-, 6 6-, 7 6+, 8 5+, 9 4+, 10 3+, 11 2+, 12 1+
text: ON; DIP_6

## SW_DIP8
designator DIP8
八位拨码开关
footprint SW_DIP8_Chip (八位拨码开关，贴片)
footprint SW_DIP8_Line (八位拨码开关，直插)
pins: 1 1-, 2 2-, 3 3-, 4 4-, 5 5-, 6 6-, 7 7-, 8 8-, 9 8+, 10 7+, 11 6+, 12 5+, 13 4+, 14 3+, 15 2+, 16 1+
text: ON; DIP_8

## TF - 2
designator *
footprint TF-2
pins: 0 GND, 1 DAT2, 2 DAT3, 3 CMD, 4 3V3, 5 CLK, 6 GND, 7 DAT0, 8 DAT1, 9 CD, 10 GND, 11 GND, 12 GND

## TJA1040
designator *
footprint TJA1040
pins: 1 TxD, 2 GND, 3 VCC, 4 RxD, 5 SPLIT, 6 CANL, 7 CANH, 8 STB

## TLC5510
designator U?
外部AD
footprint TLC5510 (AD)
pins: 1 ~{OE}, 2 DGND, 3 D1, 4 D2, 5 D3, 6 D4, 7 D5, 8 D6, 9 D7, 10 D8, 11 VDDD, 12 CLK, 13 VDDD, 14 VDDA, 15 VDDA, 16 REFTS, 17 REFT, 18 VDDA, 19 ANALOG IN, 20 AGND, 21 AGND, 22 REFBS, 23 REFB, 24 DGND

## TLP521-1
designator *
footprint TLP521-1
pins: 1 ANODE, 2 CATHODE, 3 EMITTER, 4 COLLECTOR

## Trisistor - S8050
designator T?, comment S8050
三极管, NPN
footprint Trisistor - S8050 (NPN三极管, SOT-23封装)
pins: B, C, E

## WD30-24D12D1
designator *
DC-DC 30W
footprint WD30-24D12D1 (DV-DV 30W)
pins: 1 REM, 2 -Vin, 3 +Vin, 4 NP, 5 +Vo, 6 GND, 7 TRIM

## XS128MINISYS
designator U?, comment XS128最小系统
footprint XS128MINISYS
pins: 101 P3, 102 P2, 103 P1, 104 P0, 105 K3, 106 K2, 107 K1, 108 K0, 109 T0, 110 T1, 111 T2, 112 T3, 113 T4, 114 T5, 115 T6, 116 T7, 117 K4, 118 K5, 119 J1, 120 J0, 121 B0, 122 B1, 123 B2, 124 B3, 125 B4, 126 B5, 127 B6, 128 B7, 201 5V, 202 G, 203 5V, 204 G, 205 M6, 206 M7, 207 S1, 208 S0, 209 S3, 210 S2, 211 S5, 212 S4, 213 S7, 214 S6, 215 J6, 216 J7, 217 M4, 218 M5, 219 M2, 220 M3, 221 M0, 222 M1, 223 N, 224 K7, 225 P7, 226 P6, 227 P5, 228 P4, 301 A0, 302 A1, 303 A2, 304 A3, 305 A4, 306 A5, 307 A6, 308 A7, 309 AD0, 310 AD8, 311 AD1, 312 AD9, 313 AD2, 314 AD10, 315 AD3, 316 AD11, 317 AD4, 318 AD12, 319 AD5, 320 AD13, 321 AD6, 322 AD14, 323 AD7, 324 AD15, 325 N, 326 VRH, 327 5V, 328 G, 401 H6, 402 H7, 403 H4, 404 H5, 405 E5, 406 E7, 407 E4, 408 E6, 501 H3, 502 H2, 503 H1, 504 H0, 505 E3, 506 E2, 507 E1, 508 E0

## XS128MINISYS - Small1.2
designator U?, comment XS128最小系统
XS128最小系统, 较小
footprint XS128MINISYS - Small1.2 (XS128最小系统)
pins: 1 GND, 2 5V, 3 H2, 4 H3, 5 H0, 6 H1, 7 E2, 8 E3, 9 E0, 10 E1, 11 A1, 12 A0, 13 A3, 14 A2, 15 A5, 16 A4, 17 A7, 18 A6, 19 AD0, 20 AD8, 21 AD1, 22 AD9, 23 AD2, 24 AD10, 25 AD3, 26 AD11, 27 AD4, 28 AD12, 29 AD5, 30 AD13, 31 AD6, 32 AD14, 33 AD7, 34 AD15, 35 VRH, 36 PM7, 37 PM6, 38 PS2, 39 PS3, 40 PS4, 41 PS5, 42 PS6, 43 PS7, 44 PJ7, 45 PJ6, 46 PM5, 47 E4, 48 E5, 49 E6, 50 E7, 51 H4, 52 H5, 53 H6, 54 H7, 55 B7, 56 B6, 57 B5, 58 B4, 59 B3, 60 B2, 61 B1, 62 B0, 63 J0, 64 J1, 65 K4, 66 K5, 67 T7, 68 T6, 69 T5, 70 T4, 71 T3, 72 T2, 73 T1, 74 T0, 75 K0, 76 K1, 77 K2, 78 K3, 79 P0, 80 P1, 81 P2, 82 P3, 83 P4, 84 P5, 85 P6, 86 P7, 87 K7, 87 M0, 89 M1, 89 M2, 91 M3, 92 M4

## XS128P112
designator U?, comment MC9S12XS128MAL
MC9S12XS128MAL, 112Pin
footprint XS128P112
footprint XS128P112 - lean
pins: 1 PWM3/KWP3/PP3, 2 TXD1/IOC2/PWM2/KWP2/PP2, 3 IOC1/PWM1/KWP1/PP1, 4 RXD1/IOC2/PWM0/KWP0/PP0, 5 PK3, 6 PK2, 7 PK1, 8 PK0, 9 IOC0/PT0, 10 IOC1/PT1, 11 IOC2/PT2, 12 IOC3/PT3, 13 VDDF, 14 VSS1, 15 PWM4/IO47/PT4, 16 PWM5/IOC5/PT5, 17 PWM6/IOC6/PT6, 18 PWM7/IOC7/PT7, 19 PK5, 20 PK4, 21 KWJ1/PJ1, 22 KWJ0/PJ0, 23 MODC/BKGD, 24 PB0, 25 PB1, 26 PB2, 27 PB3, 28 PB4, 29 PB5, 30 PB6, 31 PB7, 32 KWH7/PH7, 33 KWH6/PH6, 34 KWH5/PH5, 35 KWH4/PH4, 36 ~{XCLKS}/ECLKX2/PE7, 37 PE6, 38 PE5, 39 ECLK/PE4, 40 VSSX2, 41 VDDX2, 42 ~{RESET}, 43 VDDR, 44 VSS3, 45 VSSPLL, 46 EXTAL, 47 XTAL, 48 VDDPLL, 49 KWH3/PH3, 50 KWH2/PH2, 51 KWH1/PH1, 52 KWH0/PH0, 53 PE3, 54 PE2, 55 ~{IRQ}/PE1, 56 ~{XIRQ}/PE0, 57 PA0, 58 PA1, 59 PA2, 60 PA3, 61 PA4, 62 PA5, 63 PA6, 64 PA7, 65 VDD, 66 VSS2, 67 PAD00/AN00, 68 PAD08/AN08, 69 PAD01/AN01, 70 PAD09/AN09, 71 PAD02/AN02, 72 PAD10/AN10, 73 PAD03/AN03, 74 PAD11/AN11, 75 PAD04/AN04, 76 PAD12/AN12, 77 PAD05/AN05, 78 PAD13/AN13, 79 PAD06/AN06, 80 PAD14/AN14, 81 PAD07/AN07, 82 PAD15/AN15, 83 VDDA, 84 VRH, 85 VRL, 86 VSSA, 87 PM7, 88 PM6, 89 RXD0/PS0, 90 TXD0/PS1, 91 RXD1/PS2, 92 TXD1/PS3, 93 PS4, 94 PS5, 95 PS6, 96 PS7, 97 TEST, 98 PJ7, 99 PJ6, 100 PM5, 101 PM4, 102 PM3, 103 PM2, 104 PM1, 105 PM0, 106 VSSX1, 107 VDDX1, 108 PK7, 109 PP7, 110 PP6, 111 PP5, 112 PP4

## XT60
designator *
XT60航模插头
footprint XT60
pins: 1 ﹢, 2 ﹣